# EAGLE library part MAX7219 (library Chip)
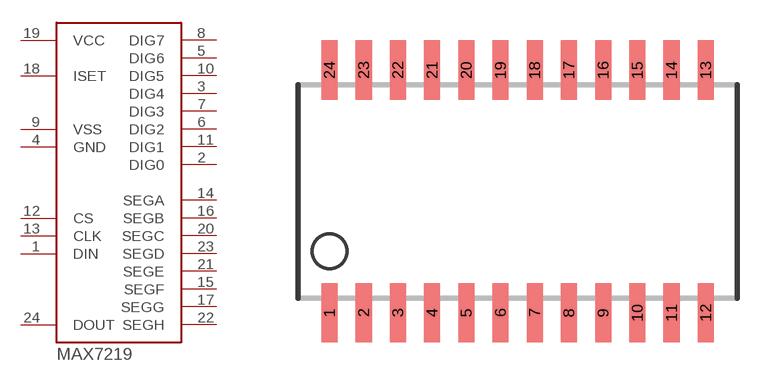
[diagram p2: symbol with the pads of SOP24; footprint SOP24]

Designator prefix -

## MAX7219  [SOP24]
1  DIN  in
2  DIG0  in
3  DIG4  in
4  GND  pwr
5  DIG6  in
6  DIG2  in
7  DIG3  in
8  DIG7  in
9  VSS  pwr
10  DIG5  in
11  DIG1  in
12  CS  in
13  CLK  in
14  SEGA  in
15  SEGF  in
16  SEGB  in
17  SEGG  in
18  ISET  in
19  VCC  pwr
20  SEGC  in
21  SEGE  in
22  SEGH  in
23  SEGD  in
24  DOUT  in

## Footprint SOP24 (pad centres in mm)
SMALL OUTLINE PACKAGE
smd 0.6 x 2.2: 1 -6.985,-4.5; 2 -5.715,-4.5; 3 -4.445,-4.5; 4 -3.175,-4.5; 5 -1.905,-4.5; 6 -0.635,-4.5; 7 0.635,-4.5; 8 1.905,-4.5; 9 3.175,-4.5; 10 4.445,-4.5; 11 5.715,-4.5; 12 6.985,-4.5; 13 6.985,4.5; 14 5.715,4.5; 15 4.445,4.5; 16 3.175,4.5; 17 1.905,4.5; 18 0.635,4.5; 19 -0.635,4.5; 20 -1.905,4.5; 21 -3.175,4.5; 22 -4.445,4.5; 23 -5.715,4.5; 24 -6.985,4.5